# EAGLE library part CPL-USB-FT2321XS (library TinWhiskers)
IC: USB-to-UART (Full Handshake), +5V; Package: 20-SSOP; Datasheet: http://www.ftdichip.com/Support/Documents/DataSheets/ICs/DS_FT231X.pdf
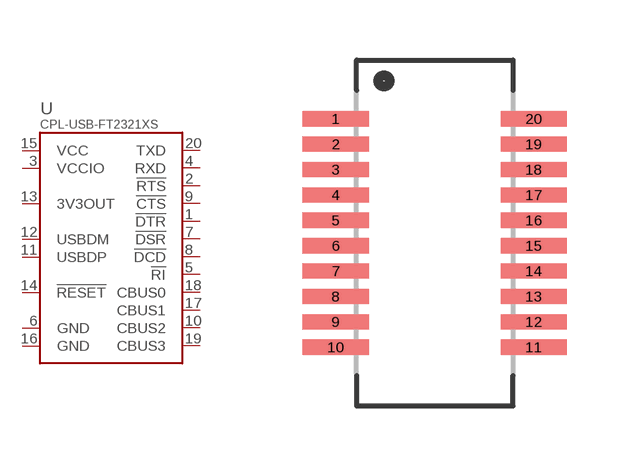
[diagram p33: symbol with the pads of 20-SSOP; footprint 20-SSOP]

Designator prefix U

## CPL-USB-FT2321XS  [20-SSOP]
1  !DTR
2  !RTS
3  VCCIO
4  RXD
5  !RI
6  GND
7  !DSR
8  !DCD
9  !CTS
10  CBUS2
11  USBDP
12  USBDM
13  3V3OUT
14  !RESET
15  VCC
16  GND
17  CBUS1
18  CBUS0
19  CBUS3
20  TXD

## Footprint 20-SSOP (pad centres in mm)
20-SSOP
smd 1.651 x 0.381: 1 -2.477,2.857; 2 -2.477,2.223; 3 -2.477,1.587; 4 -2.477,0.953; 5 -2.477,0.318; 6 -2.477,-0.318; 7 -2.477,-0.953; 8 -2.477,-1.587; 9 -2.477,-2.223; 10 -2.477,-2.857; 11 2.477,-2.857; 12 2.477,-2.223; 13 2.477,-1.587; 14 2.477,-0.953; 15 2.477,-0.318; 16 2.477,0.318; 17 2.477,0.953; 18 2.477,1.587; 19 2.477,2.223; 20 2.477,2.857